# Altium footprint library connectors.PcbLib: 68 footprints (part 1 of 5)
Each footprint in its own frame and in the unit in brackets; x right, y up, seen from the top. Pads: shape width x height; smd on the part's side, far side on the other; paste and mask are expansions set on the pad; w line width, h text height; cw(c..) or ccw(c..) is an arc to the next point about the centre after c.
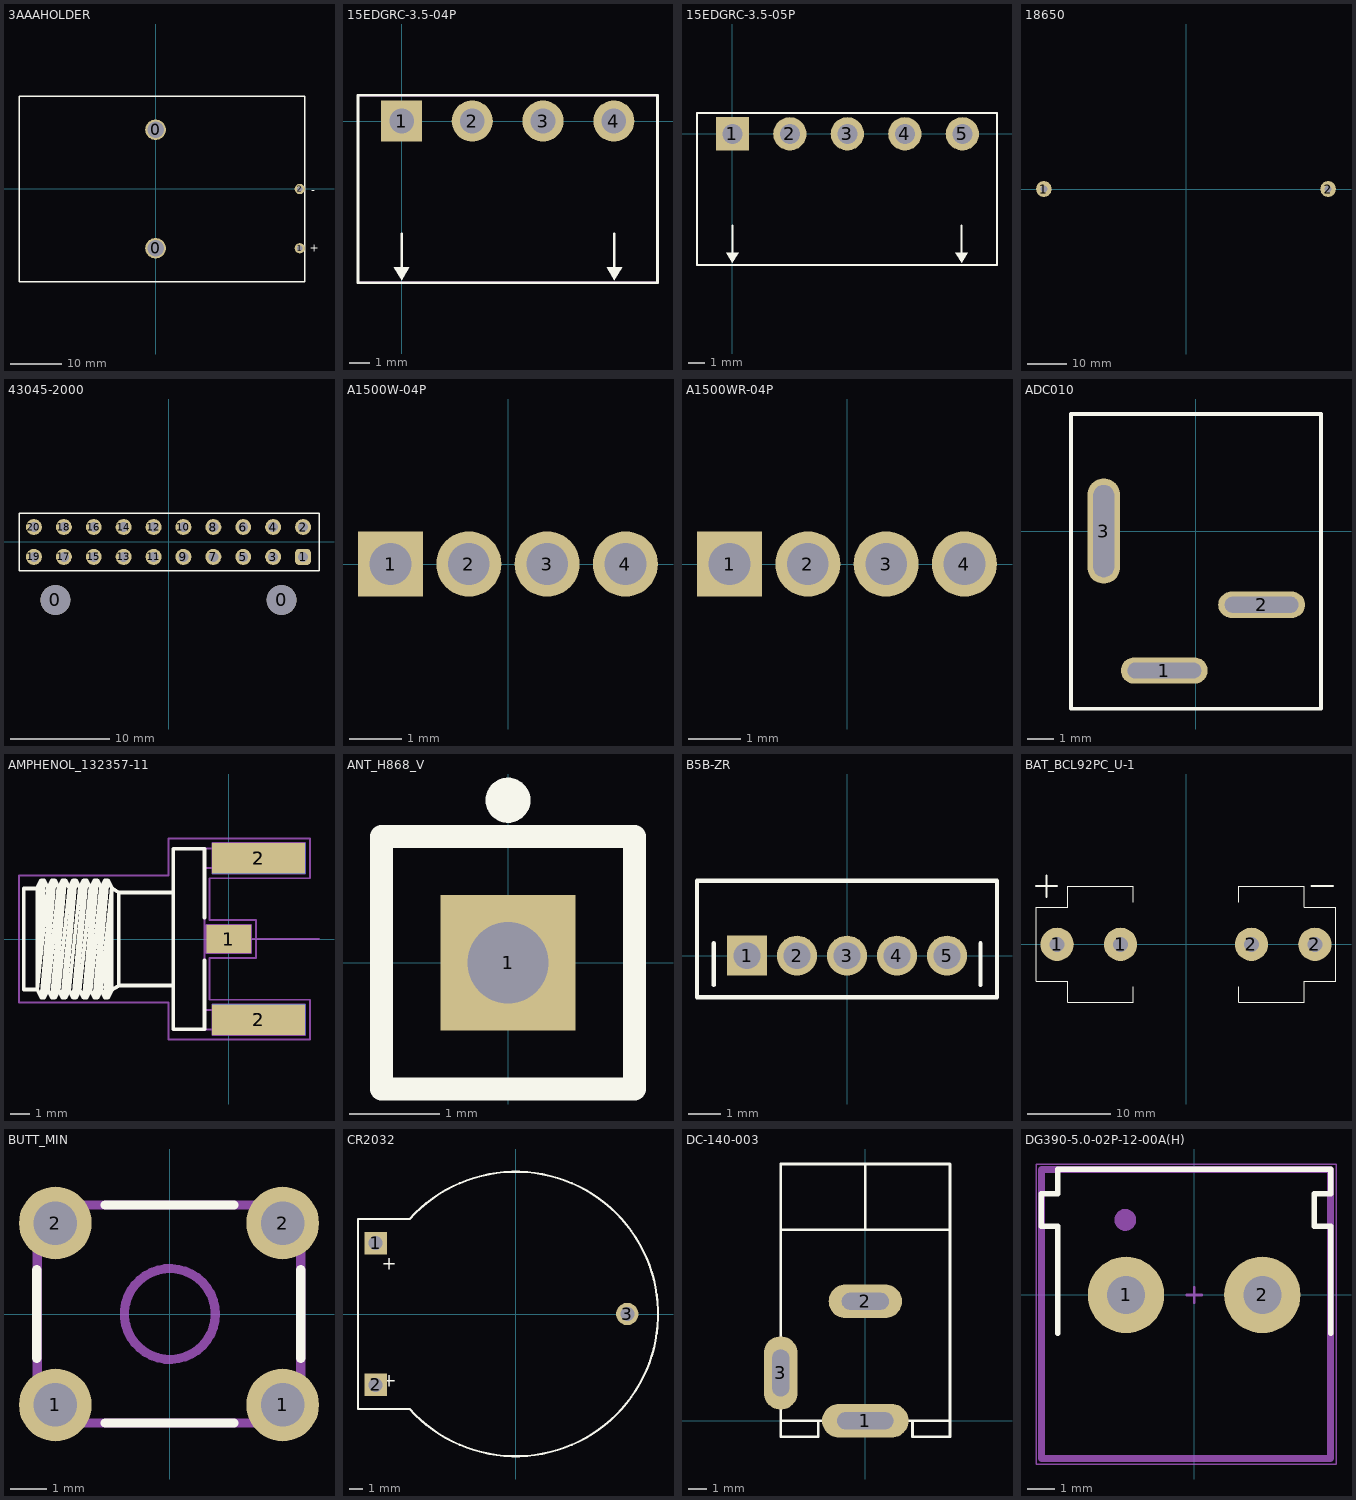
[diagram p0: the footprints below, top view; thin cyan lines are the x and y axes]

## 3AAAHOLDER [mm]
pads (4):
  round 4 hole 3.2: 0(0,-11.5) 0(0,11.5)
  round 2 hole 1: 1(28,-11.5) 2(28,0)
Top Overlay:
  lines w0.254: -26.5,-18 29,-18 29,18 -26.5,18 -26.5,-18
  text "+" at 29.9,-12.2 h1.52
  text "-" at 30.2,-0.9 h1.52
3D body "3x AAA battery holder_update.stp": height 13, standoff 0, extent -26.188,-18 26.795,18

## 15EDGRC-3.5-04P [mil]
pads (4):
  rect 80x80 hole 48: 1(0,0)
  round 80 hole 48: 2(137.8,0) 3(275.8,0) 4(413.8,0)
Top Overlay:
  region: 415,-310 400,-285 430,-285
  region: 0,-310 -15,-285 15,-285
  lines w5: 0,-285 0,-220 ; 415,-285 415,-220 ; 498,50 -85,50 -85,-315 499,-315 499,50
Mechanical 1:
  lines w3.94: -85,-315 500,-315 500,50 -85,50 -85,-315
3D body "15EDGRC-3_5-04P.step": height 283.46, standoff -133.86, extent -84.64,-314.96 498.04,47.25

## 15EDGRC-3.5-05P [mil]
pads (5):
  rect 80x80 hole 48: 1(0,0)
  round 80 hole 48: 2(137.8,0) 3(275.8,0) 4(413.8,0) 5(551.8,0)
Top Overlay:
  region: 0,-310 -15,-285 15,-285
  region: 550,-310 535,-285 565,-285
  lines w5: 0,-285 0,-220 ; 550,-285 550,-220 ; -85,-315 635,-315 635,50 -85,50 -85,-315
Mechanical 1:
  lines w3.94: -85,15 -85,25 ; -85,-315 635,-315 635,50 -85,50 -85,-315
3D body "15EDGRC-3_5-2.step": height 283.46, standoff -133.86, extent -88.58,-312.21 218.51,50
3D body "15EDGRC-3_5-03P.STEP": height 283.46, standoff -133.86, extent 190.95,-314.95 633.86,47.25

## 18650 [mm]
pads (2):
  round 4 hole 1.8: 1(-36,0) 2(36,0)
3D body "18650 Single Cell Holder.STEP": height 21, standoff 0, extent -37.5,-10.5 37.5,10.5

## 43045-2000 [mm] "Molex micro-fit connector, 20 pins"
pads (22):
  round 3 hole 3 unplated: 0(-11.35,-5.82) 0(11.35,-5.82)
  rrect50% 1.6x1.6 hole 1: 1(13.5,-1.5)
  round 1.6 hole 1: 2(13.5,1.5) 3(10.5,-1.5) 4(10.5,1.5) 5(7.5,-1.5) 6(7.5,1.5) 7(4.5,-1.5) 8(4.5,1.5) 9(1.5,-1.5) 10(1.5,1.5) 11(-1.5,-1.5) 12(-1.5,1.5) 13(-4.5,-1.5) 14(-4.5,1.5) 15(-7.5,-1.5) 16(-7.5,1.5) 17(-10.5,-1.5) 18(-10.5,1.5) 19(-13.5,-1.5) 20(-13.5,1.5)
Top Overlay:
  lines w0.15: -15,-2.9 -15,2.9 15.1,2.9 15.1,-2.9 -15,-2.9
3D body "Molex43045-2000.step": height 8.83, standoff -3.12, extent -17.075,-10.45 17.075,1.79

## A1500W-04P [mm] "1.5 mm pitch pcb male"
pads (4):
  rect 1.25x1.25 hole 0.8: 1(-2.25,0)
  round 1.25 hole 0.8: 2(-0.75,0) 3(0.75,0) 4(2.25,0)
3D body "B4B-ZR.STEP": height 4.5, standoff -2.7, extent -3.75,-1.27 3.75,2.23

## A1500WR-04P [mm] "1.5 mm pitch right angle pcb male"
pads (4):
  rect 1.25x1.25 hole 0.8: 1(-2.25,0)
  round 1.25 hole 0.8: 2(-0.75,0) 3(0.75,0) 4(2.25,0)
3D body "S4B-ZR.STEP": height 3.81, standoff -2.59, extent -3.75,-4.5 3.75,1.5

## ADC010 [mm] "DC power jack, 2mm, vertical"
pads (3):
  oval 3.3x1 hole 0.6 slot 2.8 at 0 deg mask+0.1: 1(-1.2,-5.3) 2(2.5,-2.8)
  oval 1.25x4 hole 0.8 slot 3.5 at 90 deg mask+0.1: 3(-3.5,0)
Top Overlay:
  lines w0.15: -4.75,-6.75 -4.75,4.45 4.75,4.45 4.75,-6.75 -4.75,-6.75

## AMPHENOL_132357-11 [mm] "SMA End Launch Jack for 1.58mm PCB, 50 Ohm, Flat Tab Contact"
height 7.92
pads (5):
  rect 2.35x1.5 smd: 1(0,0)
  rect 4.9x1.6 smd far side: 2(1.575,-4.25) 2(1.575,4.25)
  rect 4.9x1.6 smd: 2(1.575,-4.25) 2(1.575,4.25)
Top Overlay:
  lines w0.2: -10.09,2.665 -10.805,2.665 -10.805,-2.665 -10.09,-2.665 ; -6.17,-2.665 -5.795,-2.453 ; -2.925,-2.453 -5.795,-2.453 ; -2.925,2.447 -5.795,2.447 ; -1.275,-1.137 -1.275,-4.76 -2.925,-4.76 -2.925,4.76 -1.275,4.76 -1.275,1.137 ; -10.09,-2.665 -10.09,2.715 -9.879,3.094 ; -10.09,-2.665 -9.879,-3.094 ; -10.09,-2.665 -9.53,2.715 ; -10.09,-2.665 -9.741,3.094 ; -10.09,-2.665 -9.879,3.094 ; -9.879,-3.094 -9.741,-3.094 ; -9.879,-3.094 -9.319,3.094 ; -9.879,3.094 -9.741,3.094 ; -9.741,-3.094 -9.53,-2.715 ; -9.741,-3.094 -9.181,3.094 ; -9.741,3.094 -9.53,2.715 ; -9.53,-2.715 -9.319,-3.094 ; -9.53,-2.715 -8.97,2.715 ; -9.53,2.715 -9.319,3.094 ; -9.319,-3.094 -9.181,-3.094 ; -9.319,-3.094 -8.759,3.094 ; -9.319,3.094 -9.181,3.094 ; -9.181,-3.094 -8.97,-2.715 ; -9.181,-3.094 -8.621,3.094 ; -9.181,3.094 -8.97,2.715 ; -8.97,-2.715 -8.759,-3.094 ; -8.97,-2.715 -8.41,2.715 ; -8.97,2.715 -8.759,3.094 ; -8.759,-3.094 -8.621,-3.094 ; -8.759,-3.094 -8.199,3.094 ; -8.759,3.094 -8.621,3.094 ; -8.621,-3.094 -8.41,-2.715 ; -8.621,-3.094 -8.061,3.094 ; -8.621,3.094 -8.41,2.715 ; -8.41,-2.715 -8.199,-3.094 ; -8.41,-2.715 -7.85,2.715 ; -8.41,2.715 -8.199,3.094 ; -8.199,-3.094 -8.061,-3.094 ; -8.199,-3.094 -7.639,3.094 ; -8.199,3.094 -8.061,3.094 ; -8.061,-3.094 -7.85,-2.715 ; -8.061,-3.094 -7.501,3.094 ; -8.061,3.094 -7.85,2.715 ; -7.85,-2.715 -7.639,-3.094 ; -7.85,-2.715 -7.29,2.715 ; -7.85,2.715 -7.639,3.094 ; -7.639,-3.094 -7.501,-3.094 ; -7.639,-3.094 -7.079,3.094 ; -7.639,3.094 -7.501,3.094 ; -7.501,-3.094 -7.29,-2.715 ; -7.501,-3.094 -6.941,3.094 ; -7.501,3.094 -7.29,2.715 ; -7.29,-2.715 -7.079,-3.094 ; -7.29,-2.715 -6.73,2.715 ; -7.29,2.715 -7.079,3.094 ; -7.079,-3.094 -6.941,-3.094 ; -7.079,-3.094 -6.519,3.094 ; -7.079,3.094 -6.941,3.094 ; -6.941,-3.094 -6.73,-2.715 ; -6.941,-3.094 -6.381,3.094 ; -6.941,3.094 -6.73,2.715 ; -6.73,-2.715 -6.519,-3.094 ; -6.73,-2.715 -6.17,2.713 ; -6.73,2.715 -6.519,3.094 ; -6.519,-3.094 -6.381,-3.094 ; -6.519,-3.094 -6.17,2.713 ; -6.519,3.094 -6.381,3.094 ; -6.381,-3.094 -6.17,-2.715 -6.17,2.713 ; -6.381,-3.094 -6.17,2.665 -5.795,2.447 ; -6.381,3.094 -6.17,2.713 ; -5.795,-2.453 -5.795,2.447
Bottom Assembly:
  lines w0.1: -0.5,0 0,0 ; 0,-0.5 0,0 ; 0,0.5 0,0 ; 0.5,0 0,0 ; 1.075,-4.25 1.575,-4.25 ; 1.075,4.25 1.575,4.25 ; 1.575,-4.75 1.575,-4.25 ; 1.575,-3.75 1.575,-4.25 ; 1.575,3.75 1.575,4.25 ; 1.575,4.75 1.575,4.25 ; 2.075,-4.25 1.575,-4.25 ; 2.075,4.25 1.575,4.25 ; -1.175,-0.75 -1.175,0.75 1.175,0.75 1.175,-0.75 -1.175,-0.75 ; -0.875,-5.05 4.025,-5.05 4.025,-3.45 -0.875,-3.45 -0.875,-5.05 ; -0.875,3.45 4.025,3.45 4.025,5.05 -0.875,5.05 -0.875,3.45
Mechanical 14:
  lines w0.1: -10.09,2.665 -10.805,2.665 -10.805,-2.665 -10.09,-2.665 ; -6.17,-2.665 -5.795,-2.453 ; -2.925,-2.453 -5.795,-2.453 ; -2.925,2.447 -5.795,2.447 ; -1.275,-4.76 -1.275,0 ; -1.275,-3.74 3.475,-3.74 3.475,-4.76 -2.925,-4.76 -2.925,4.76 3.475,4.76 3.475,3.74 -1.275,3.74 ; -1.275,-0.251 0.635,-0.251 0.635,0.251 -1.275,0.251 ; -1.275,4.76 -1.275,0 ; 4.75,0 -1.275,0 ; -10.09,-2.665 -10.09,2.715 -9.879,3.094 ; -10.09,-2.665 -9.879,-3.094 ; -10.09,-2.665 -9.53,2.715 ; -10.09,-2.665 -9.741,3.094 ; -10.09,-2.665 -9.879,3.094 ; -9.879,-3.094 -9.741,-3.094 ; -9.879,-3.094 -9.319,3.094 ; -9.879,3.094 -9.741,3.094 ; -9.741,-3.094 -9.53,-2.715 ; -9.741,-3.094 -9.181,3.094 ; -9.741,3.094 -9.53,2.715 ; -9.53,-2.715 -9.319,-3.094 ; -9.53,-2.715 -8.97,2.715 ; -9.53,2.715 -9.319,3.094 ; -9.319,-3.094 -9.181,-3.094 ; -9.319,-3.094 -8.759,3.094 ; -9.319,3.094 -9.181,3.094 ; -9.181,-3.094 -8.97,-2.715 ; -9.181,-3.094 -8.621,3.094 ; -9.181,3.094 -8.97,2.715 ; -8.97,-2.715 -8.759,-3.094 ; -8.97,-2.715 -8.41,2.715 ; -8.97,2.715 -8.759,3.094 ; -8.759,-3.094 -8.621,-3.094 ; -8.759,-3.094 -8.199,3.094 ; -8.759,3.094 -8.621,3.094 ; -8.621,-3.094 -8.41,-2.715 ; -8.621,-3.094 -8.061,3.094 ; -8.621,3.094 -8.41,2.715 ; -8.41,-2.715 -8.199,-3.094 ; -8.41,-2.715 -7.85,2.715 ; -8.41,2.715 -8.199,3.094 ; -8.199,-3.094 -8.061,-3.094 ; -8.199,-3.094 -7.639,3.094 ; -8.199,3.094 -8.061,3.094 ; -8.061,-3.094 -7.85,-2.715 ; -8.061,-3.094 -7.501,3.094 ; -8.061,3.094 -7.85,2.715 ; -7.85,-2.715 -7.639,-3.094 ; -7.85,-2.715 -7.29,2.715 ; -7.85,2.715 -7.639,3.094 ; -7.639,-3.094 -7.501,-3.094 ; -7.639,-3.094 -7.079,3.094 ; -7.639,3.094 -7.501,3.094 ; -7.501,-3.094 -7.29,-2.715 ; -7.501,-3.094 -6.941,3.094 ; -7.501,3.094 -7.29,2.715 ; -7.29,-2.715 -7.079,-3.094 ; -7.29,-2.715 -6.73,2.715 ; -7.29,2.715 -7.079,3.094 ; -7.079,-3.094 -6.941,-3.094 ; -7.079,-3.094 -6.519,3.094 ; -7.079,3.094 -6.941,3.094 ; -6.941,-3.094 -6.73,-2.715 ; -6.941,-3.094 -6.381,3.094 ; -6.941,3.094 -6.73,2.715 ; -6.73,-2.715 -6.519,-3.094 ; -6.73,-2.715 -6.17,2.713 ; -6.73,2.715 -6.519,3.094 ; -6.519,-3.094 -6.381,-3.094 ; -6.519,-3.094 -6.17,2.713 ; -6.519,3.094 -6.381,3.094 ; -6.381,-3.094 -6.17,-2.715 -6.17,2.713 ; -6.381,-3.094 -6.17,2.665 -5.795,2.447 ; -6.381,3.094 -6.17,2.713 ; -5.795,-2.453 -5.795,2.447
Mechanical 15:
  lines w0.1: -11.055,-3.344 -3.175,-3.344 -3.175,-5.3 4.275,-5.3 4.275,-3.2 -1.025,-3.2 -1.025,-1 1.425,-1 1.425,1 -1.025,1 -1.025,3.2 4.275,3.2 4.275,5.3 -3.175,5.3 -3.175,3.344 -11.055,3.344 -11.055,-3.344
3D body "AMPHENOL_132357-11.stp": height 4.08, standoff -3.84, extent -10.805,-4.76 3.475,4.76

## ANT_H868_V [mm] "helical 868 MHz antenna"
pads (1):
  rect 1.5x1.5 hole 0.9: 1(0,0)
Top Overlay:
  circle w0.25: c0,1.8 r0.125
  lines w0.254: -1.4,-1.4 1.4,-1.4 1.4,1.4 -1.4,1.4 -1.4,-1.4
3D body "868mhz_antenna.STEP": height 16.4, standoff -1.37, extent -5.9,-4.25 0.4,2.05

## B5B-ZR [mil]
pads (5):
  rect 48x48 hole 32: 1(-120,0)
  round 48 hole 32: 2(-60,0) 3(0,0) 4(60,0) 5(120,0)
Top Overlay:
  lines w5: -160,-35 -160,15 ; 160,-35 160,15 ; -180,-50 -180,90 180,90 180,-50 -180,-50
3D body "B5B-ZR.STEP": height 86.61, standoff -196.85, extent -177.17,-50 177.16,87.79

## BAT_BCL92PC_U-1 [mm]
pads (4):
  round 4 hole 1.8: 1(-15.494,0) 1(-7.874,0) 2(7.874,0) 2(15.494,0)
Top Overlay:
  lines w0.127: -6.35,-5.08 -6.35,-6.985 -14.224,-6.985 -14.224,-4.445 -18.034,-4.445 -18.034,4.445 -14.224,4.445 -14.224,6.985 -6.35,6.985 -6.35,5.08 ; 6.35,-5.08 6.35,-6.985 14.224,-6.985 14.224,-4.445 18.034,-4.445 18.034,4.445 14.224,4.445 14.224,6.985 6.35,6.985 6.35,5.08
  lines w0.25: -18.034,6.985 -15.494,6.985 ; -16.764,5.715 -16.764,8.255 ; 15.113,6.985 17.653,6.985
3D body "BATH_KEYSTONE_92.stp": height 15.13, standoff -3.81, extent -17.381,-6.726 -7.848,6.726
3D body "BATH_KEYSTONE_92.stp": height 15.13, standoff -3.81, extent 7.848,-6.726 17.381,6.726

## BUTT_MIN [mm]
pads (4):
  round 2 hole 1.2 mask+0.05: 1(-3.15,-2.5) 1(3.1,-2.5) 2(-3.15,2.5) 2(3.1,2.5)
Top Overlay:
  lines w0.254: -3.66,-1.22 -3.66,1.22 ; -1.78,-3 1.76,-3 ; -1.78,3 1.76,3 ; 3.6,-1.22 3.6,1.22
Top Assembly:
  circle w0.254: c0,0 r1.25
  lines w0.254: -3.65,-3 -3.65,3 3.6,3 3.6,-3 -3.65,-3
3D body "User Library-SWT-2.STEP": height 7.01, standoff -3.49, extent -3.95,-3.1 3.95,3.1

## CR2032 [mm]
pads (3):
  rect 1.6x1.6 hole 1: 1(-10.033,5.08) 2(-10.033,-5.08)
  round 1.6 hole 1: 3(8,0)
Top Overlay:
  lines w0.152: -7.6,-6.8 -11.3,-6.8 -11.3,6.8 -7.6,6.8 ; -7.592,-6.812 ccw(c0,0) -7.592,6.812
  text "+" at -9.591,3.171 h0.95
  text "+" at -9.591,-5.229 h0.95
3D body "cr2032 pcb, lithium battery-1.step": height 7.25, standoff -3.97, extent -10.249,-10 10,10

## DC-140-003 [mm]
pads (3):
  oval 4.6x1.8 hole 0.9 slot 3 at 0 deg: 1(0,0)
  oval 3.9x1.8 hole 0.9 slot 2.5 at 0 deg: 2(0,6.35)
  oval 1.8x3.9 hole 0.9 slot 2.5 at 90 deg: 3(-4.5,2.54)
Top Overlay:
  lines w0.15: -4.5,10.15 4.475,10.15 ; -2.5,0 -2.5,-0.85 -4.5,-0.85 -4.5,0 ; 0,10.15 0,13.65 ; 2.5,0 2.5,-0.85 4.5,-0.85 4.5,0 ; -4.5,0 4.5,0 ; -4.5,0 -4.5,13.65 4.5,13.65 4.5,0
Mechanical 16:
  lines w0.05: -4.95,1.85 ccw(c-4.5,1.85) -4.05,1.85 -4.05,3.95 ccw(c-4.5,3.95) -4.95,3.95 -4.95,1.85 ; -1.3,-0.45 cw(c-1.3,0) -1.3,0.45 1.3,0.45 cw(c1.3,0) 1.3,-0.45 -1.3,-0.45 ; -1.05,5.6 cw(c-1.05,6.05) -1.05,6.5 1.05,6.5 cw(c1.05,6.05) 1.05,5.6 -1.05,5.6
3D body "DC_JACK.step": height 11.85, standoff -2.65, extent -4.76,-0.45 4.5,14

## DG390-5.0-02P-12-00A(H) [mm]
pads (2):
  round 2.8 hole 1.4: 1(-2.5,0) 2(2.5,0)
Top Overlay:
  lines w0.2: -5,-1.406 -5,2.522 -5.6,2.522 -5.6,3.714 -5,3.714 -5,4.6 5,4.6 5,3.714 4.4,3.714 4.4,2.522 5,2.522 5,-1.406
Top Courtyard:
  lines w0.05: -5.8,-6.2 -5.8,4.8 5.2,4.8 5.2,-6.2 -5.8,-6.2
Top Component Center:
  lines w0.1: -0.275,0 0.275,0 ; 0,-0.275 0,0.275
Top Component Outline:
  lines w0.05: -5.6,-6 5,-6 5,4.6 -5.6,4.6 -5.6,-6
Top Assembly:
  circle w0.4: c-2.525,2.75 r0.2
  lines w0.2: -5.6,-6 5,-6 5,4.6 -5.6,4.6 -5.6,-6
Bottom Assembly:
  circle w0.1: c2.5,0 r0.5
  circle w0.1: c-2.5,0 r0.5
  lines w0.254: -5.6,-6 5,-6 5,4.6 -5.6,4.6 -5.6,-6
Top Designator:
  text ".Designator" at -1.874,-0.192 h1
Top Value:
  text ".Comment" at -1.703,-0.258 h1
3D body "DG390-5.0-2p.STEP": height 14.03, standoff -4.77, extent -5.6,-6 5,4.6